# Altium schematic symbol library 2021-05-01_16-02-10.SchLib: 2 symbols
Pins are listed as number, name and electrical type; pins without a type are passive.

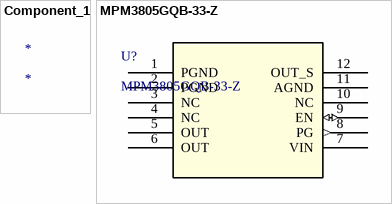
[diagram p0: symbols Component_1 to MPM3805GQB-33-Z]

## Component_1
designator *

## MPM3805GQB-33-Z
designator U?
No Description Available; Built_By: EMA_Justin; Vendor: Monolithic Power Systems Inc; SourceLibrary: Monolithic_Power_Systems_2020-08-12; Datasheet: https://www.mouser.com/datasheet/2/277/MPM3810GQB-1384534.pdf; Copyright: Copyright (C) 2018 Accelerated Designs. All rights reserved; Manufacturer_Part_Number: MPM3805GQB-33-Z; RefDes: RefDes; Type: DEV
footprint QFN2p5x3p0x0p9_MNP
pins: 1 PGND, 2 PGND, 3 NC, 4 NC, 5 OUT (power), 6 OUT (power), 7 VIN (power), 8 PG (out), 9 EN (io), 10 NC, 11 AGND, 12 OUT_S